# Altium footprint library FT260.PCBLIB: 3 footprints
Each footprint in its own frame and in the unit in brackets; x right, y up, seen from the top. Pads: shape width x height; smd on the part's side, far side on the other; paste and mask are expansions set on the pad; w line width, h text height; cw(c..) or ccw(c..) is an arc to the next point about the centre after c.
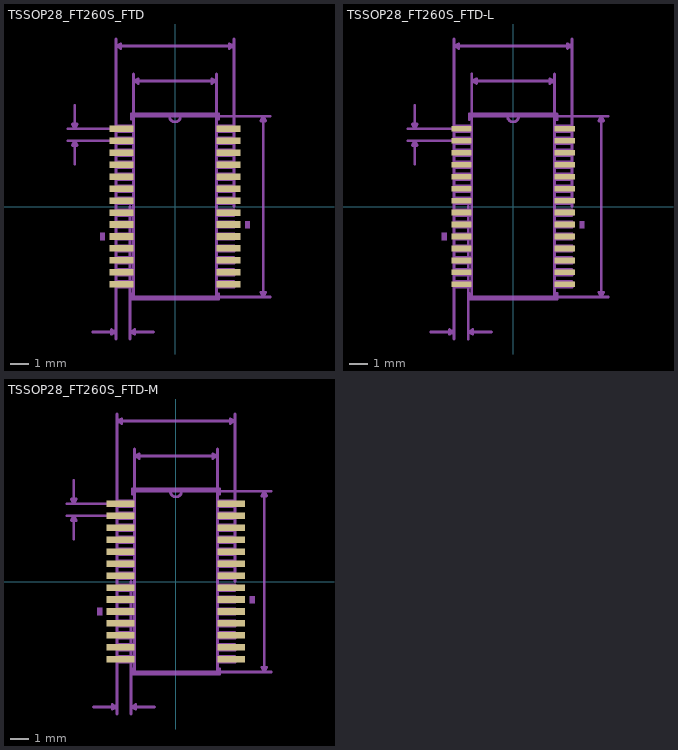
[diagram p0: the footprints below, top view; thin cyan lines are the x and y axes]

## TSSOP28_FT260S_FTD [mil]
pads (28):
  rect 51.5x14 smd: 1(-114.25,166.33) 2(-114.25,140.74) 3(-114.25,115.15) 4(-114.25,89.57) 5(-114.25,63.98) 6(-114.25,38.39) 7(-114.25,12.8) 8(-114.25,-12.8) 9(-114.25,-38.39) 10(-114.25,-63.98) 11(-114.25,-89.57) 12(-114.25,-115.15) 13(-114.25,-140.74) 14(-114.25,-166.33) 15(114.25,-166.33) 16(114.25,-140.74) 17(114.25,-115.15) 18(114.25,-89.57) 19(114.25,-63.98) 20(114.25,-38.39) 21(114.25,-12.8) 22(114.25,12.8) 23(114.25,38.39) 24(114.25,63.98) 25(114.25,89.57) 26(114.25,115.15) 27(114.25,140.74) 28(114.25,166.33)
tDocu:
  lines w6: -12,193 ccw(c0,193) 12,193 ; -126,-172.33 -126,-160.33 -88.5,-160.33 -88.5,-172.33 -126,-172.33 ; -126,-146.74 -126,-134.74 -88.5,-134.74 -88.5,-146.74 -126,-146.74 ; -126,-121.15 -126,-109.15 -88.5,-109.15 -88.5,-121.15 -126,-121.15 ; -126,-95.57 -126,-83.57 -88.5,-83.57 -88.5,-95.57 -126,-95.57 ; -126,-69.98 -126,-57.98 -88.5,-57.98 -88.5,-69.98 -126,-69.98 ; -126,-44.39 -126,-32.39 -88.5,-32.39 -88.5,-44.39 -126,-44.39 ; -126,-18.8 -126,-6.8 -88.5,-6.8 -88.5,-18.8 -126,-18.8 ; -126,6.8 -126,18.8 -88.5,18.8 -88.5,6.8 -126,6.8 ; -126,32.39 -126,44.39 -88.5,44.39 -88.5,32.39 -126,32.39 ; -126,57.98 -126,69.98 -88.5,69.98 -88.5,57.98 -126,57.98 ; -126,83.57 -126,95.57 -88.5,95.57 -88.5,83.57 -126,83.57 ; -126,109.15 -126,121.15 -88.5,121.15 -88.5,109.15 -126,109.15 ; -126,134.74 -126,146.74 -88.5,146.74 -88.5,134.74 -126,134.74 ; -126,160.33 -126,172.33 -88.5,172.33 -88.5,160.33 -126,160.33 ; -88.5,-193 88.5,-193 88.5,193 -88.5,193 -88.5,-193 ; 88.5,-172.33 88.5,-160.33 126,-160.33 126,-172.33 88.5,-172.33 ; 88.5,-146.74 88.5,-134.74 126,-134.74 126,-146.74 88.5,-146.74 ; 88.5,-121.15 88.5,-109.15 126,-109.15 126,-121.15 88.5,-121.15 ; 88.5,-95.57 88.5,-83.57 126,-83.57 126,-95.57 88.5,-95.57 ; 88.5,-69.98 88.5,-57.98 126,-57.98 126,-69.98 88.5,-69.98 ; 88.5,-44.39 88.5,-32.39 126,-32.39 126,-44.39 88.5,-44.39 ; 88.5,-18.8 88.5,-6.8 126,-6.8 126,-18.8 88.5,-18.8 ; 88.5,6.8 88.5,18.8 126,18.8 126,6.8 88.5,6.8 ; 88.5,32.39 88.5,44.39 126,44.39 126,32.39 88.5,32.39 ; 88.5,57.98 88.5,69.98 126,69.98 126,57.98 88.5,57.98 ; 88.5,83.57 88.5,95.57 126,95.57 126,83.57 88.5,83.57 ; 88.5,109.15 88.5,121.15 126,121.15 126,109.15 88.5,109.15 ; 88.5,134.74 88.5,146.74 126,146.74 126,134.74 88.5,134.74 ; 88.5,160.33 88.5,172.33 126,172.33 126,160.33 88.5,160.33
  text "*" at -96.19,140 h77.5
tPlace:
  region: -160,-56.48 -160,-71.48 -150,-71.48 -150,-56.48
  region: 160,-30.89 160,-45.89 150,-45.89 150,-30.89
  lines w6: -93.5,-186.43 -93.5,-198 93.5,-198 93.5,-186.43 ; -93.5,186.43 -93.5,198 93.5,198 93.5,186.43
  text "*" at -146.94,175.33 h77.5
Measures:
  lines w6: -229.25,140.74 -114.25,140.74 ; -229.25,166.33 -114.25,166.33 ; -214.25,90.74 -214.25,140.74 ; -214.25,216.33 -214.25,166.33 ; -176,-268 -126,-268 ; -126,-283 -126,0 -126,358 ; -96,-283 -96,0 ; -88.5,0 -88.5,283 ; -46,-268 -96,-268 ; 0,-193 203.5,-193 ; 0,193 203.5,193 ; 88.5,0 88.5,283 ; 126,0 126,358 ; -214.25,140.74 -219.25,130.74 -209.25,130.74 -214.25,140.74 ; -214.25,166.33 -219.25,176.33 -209.25,176.33 -214.25,166.33 ; -126,-268 -136,-263 -136,-273 -126,-268 ; -126,343 126,343 ; -126,343 -116,348 -116,338 -126,343 ; -96,-268 -86,-263 -86,-273 -96,-268 ; -88.5,268 88.5,268 ; -88.5,268 -78.5,273 -78.5,263 -88.5,268 ; 88.5,268 78.5,273 78.5,263 88.5,268 ; 126,343 116,348 116,338 126,343 ; 188.5,-193 188.5,193 ; 188.5,-193 183.5,-183 193.5,-183 188.5,-193 ; 188.5,193 183.5,183 193.5,183 188.5,193
  text "Default Padstyle: RX51p5Y14D0T" at -643.94,-393 h77.5
  text "Pin One Padstyle: RX51p5Y14D0T" at -658.61,-453 h77.5
  text "Alt 1 Padstyle: OX60Y90D30P" at -583.21,-633 h77.5
  text "Alt 2 Padstyle: OX90Y60D30P" at -583.21,-693 h77.5
  text "0.177in/4.496mm" at -159.15,288 h38.75
  text "0.252in/6.401mm" at -159.15,363 h38.75
  text "0.386in/9.804mm" at 208.5,-12.5 h38.75
  text "0.026in/0.65mm" at -529.86,141.04 h38.75
  text "0.03in/0.762mm" at -258.81,-313 h38.75

## TSSOP28_FT260S_FTD-L [mil]
pads (28):
  rect 43.5x12 smd: 1(-110.25,166.33) 2(-110.25,140.74) 3(-110.25,115.15) 4(-110.25,89.57) 5(-110.25,63.98) 6(-110.25,38.39) 7(-110.25,12.8) 8(-110.25,-12.8) 9(-110.25,-38.39) 10(-110.25,-63.98) 11(-110.25,-89.57) 12(-110.25,-115.15) 13(-110.25,-140.74) 14(-110.25,-166.33) 15(110.25,-166.33) 16(110.25,-140.74) 17(110.25,-115.15) 18(110.25,-89.57) 19(110.25,-63.98) 20(110.25,-38.39) 21(110.25,-12.8) 22(110.25,12.8) 23(110.25,38.39) 24(110.25,63.98) 25(110.25,89.57) 26(110.25,115.15) 27(110.25,140.74) 28(110.25,166.33)
tDocu:
  lines w6: -12,193 ccw(c0,193) 12,193 ; -126,-172.33 -126,-160.33 -88.5,-160.33 -88.5,-172.33 -126,-172.33 ; -126,-146.74 -126,-134.74 -88.5,-134.74 -88.5,-146.74 -126,-146.74 ; -126,-121.15 -126,-109.15 -88.5,-109.15 -88.5,-121.15 -126,-121.15 ; -126,-95.57 -126,-83.57 -88.5,-83.57 -88.5,-95.57 -126,-95.57 ; -126,-69.98 -126,-57.98 -88.5,-57.98 -88.5,-69.98 -126,-69.98 ; -126,-44.39 -126,-32.39 -88.5,-32.39 -88.5,-44.39 -126,-44.39 ; -126,-18.8 -126,-6.8 -88.5,-6.8 -88.5,-18.8 -126,-18.8 ; -126,6.8 -126,18.8 -88.5,18.8 -88.5,6.8 -126,6.8 ; -126,32.39 -126,44.39 -88.5,44.39 -88.5,32.39 -126,32.39 ; -126,57.98 -126,69.98 -88.5,69.98 -88.5,57.98 -126,57.98 ; -126,83.57 -126,95.57 -88.5,95.57 -88.5,83.57 -126,83.57 ; -126,109.15 -126,121.15 -88.5,121.15 -88.5,109.15 -126,109.15 ; -126,134.74 -126,146.74 -88.5,146.74 -88.5,134.74 -126,134.74 ; -126,160.33 -126,172.33 -88.5,172.33 -88.5,160.33 -126,160.33 ; -88.5,-193 88.5,-193 88.5,193 -88.5,193 -88.5,-193 ; 88.5,-172.33 88.5,-160.33 126,-160.33 126,-172.33 88.5,-172.33 ; 88.5,-146.74 88.5,-134.74 126,-134.74 126,-146.74 88.5,-146.74 ; 88.5,-121.15 88.5,-109.15 126,-109.15 126,-121.15 88.5,-121.15 ; 88.5,-95.57 88.5,-83.57 126,-83.57 126,-95.57 88.5,-95.57 ; 88.5,-69.98 88.5,-57.98 126,-57.98 126,-69.98 88.5,-69.98 ; 88.5,-44.39 88.5,-32.39 126,-32.39 126,-44.39 88.5,-44.39 ; 88.5,-18.8 88.5,-6.8 126,-6.8 126,-18.8 88.5,-18.8 ; 88.5,6.8 88.5,18.8 126,18.8 126,6.8 88.5,6.8 ; 88.5,32.39 88.5,44.39 126,44.39 126,32.39 88.5,32.39 ; 88.5,57.98 88.5,69.98 126,69.98 126,57.98 88.5,57.98 ; 88.5,83.57 88.5,95.57 126,95.57 126,83.57 88.5,83.57 ; 88.5,109.15 88.5,121.15 126,121.15 126,109.15 88.5,109.15 ; 88.5,134.74 88.5,146.74 126,146.74 126,134.74 88.5,134.74 ; 88.5,160.33 88.5,172.33 126,172.33 126,160.33 88.5,160.33
  text "*" at -96.19,140 h77.5
tPlace:
  region: -152,-56.48 -152,-71.48 -142,-71.48 -142,-56.48
  region: 152,-30.89 152,-45.89 142,-45.89 142,-30.89
  lines w6: -93.5,-185.43 -93.5,-198 93.5,-198 93.5,-185.43 ; -93.5,185.43 -93.5,198 93.5,198 93.5,185.43
  text "*" at -142.94,173.33 h77.5
Measures:
  lines w6: -225.25,140.74 -110.25,140.74 ; -225.25,166.33 -110.25,166.33 ; -210.25,90.74 -210.25,140.74 ; -210.25,216.33 -210.25,166.33 ; -176,-268 -126,-268 ; -126,-283 -126,0 -126,358 ; -96,-283 -96,0 ; -88.5,0 -88.5,283 ; -46,-268 -96,-268 ; 0,-193 203.5,-193 ; 0,193 203.5,193 ; 88.5,0 88.5,283 ; 126,0 126,358 ; -210.25,140.74 -215.25,130.74 -205.25,130.74 -210.25,140.74 ; -210.25,166.33 -215.25,176.33 -205.25,176.33 -210.25,166.33 ; -126,-268 -136,-263 -136,-273 -126,-268 ; -126,343 126,343 ; -126,343 -116,348 -116,338 -126,343 ; -96,-268 -86,-263 -86,-273 -96,-268 ; -88.5,268 88.5,268 ; -88.5,268 -78.5,273 -78.5,263 -88.5,268 ; 88.5,268 78.5,273 78.5,263 88.5,268 ; 126,343 116,348 116,338 126,343 ; 188.5,-193 188.5,193 ; 188.5,-193 183.5,-183 193.5,-183 188.5,-193 ; 188.5,193 183.5,183 193.5,183 188.5,193
  text "Default Padstyle: RX43p5Y12D0T" at -643.94,-393 h77.5
  text "Pin One Padstyle: RX43p5Y12D0T" at -658.61,-453 h77.5
  text "Alt 1 Padstyle: OX60Y90D30P" at -583.21,-633 h77.5
  text "Alt 2 Padstyle: OX90Y60D30P" at -583.21,-693 h77.5
  text "0.177in/4.496mm" at -159.15,288 h38.75
  text "0.252in/6.401mm" at -159.15,363 h38.75
  text "0.386in/9.804mm" at 208.5,-12.5 h38.75
  text "0.026in/0.65mm" at -525.86,141.04 h38.75
  text "0.03in/0.762mm" at -258.81,-313 h38.75

## TSSOP28_FT260S_FTD-M [mil]
pads (28):
  rect 59.5x14 smd: 1(-118.25,166.33) 2(-118.25,140.74) 3(-118.25,115.15) 4(-118.25,89.57) 5(-118.25,63.98) 6(-118.25,38.39) 7(-118.25,12.8) 8(-118.25,-12.8) 9(-118.25,-38.39) 10(-118.25,-63.98) 11(-118.25,-89.57) 12(-118.25,-115.15) 13(-118.25,-140.74) 14(-118.25,-166.33) 15(118.25,-166.33) 16(118.25,-140.74) 17(118.25,-115.15) 18(118.25,-89.57) 19(118.25,-63.98) 20(118.25,-38.39) 21(118.25,-12.8) 22(118.25,12.8) 23(118.25,38.39) 24(118.25,63.98) 25(118.25,89.57) 26(118.25,115.15) 27(118.25,140.74) 28(118.25,166.33)
tDocu:
  lines w6: -12,193 ccw(c0,193) 12,193 ; -126,-172.33 -126,-160.33 -88.5,-160.33 -88.5,-172.33 -126,-172.33 ; -126,-146.74 -126,-134.74 -88.5,-134.74 -88.5,-146.74 -126,-146.74 ; -126,-121.15 -126,-109.15 -88.5,-109.15 -88.5,-121.15 -126,-121.15 ; -126,-95.57 -126,-83.57 -88.5,-83.57 -88.5,-95.57 -126,-95.57 ; -126,-69.98 -126,-57.98 -88.5,-57.98 -88.5,-69.98 -126,-69.98 ; -126,-44.39 -126,-32.39 -88.5,-32.39 -88.5,-44.39 -126,-44.39 ; -126,-18.8 -126,-6.8 -88.5,-6.8 -88.5,-18.8 -126,-18.8 ; -126,6.8 -126,18.8 -88.5,18.8 -88.5,6.8 -126,6.8 ; -126,32.39 -126,44.39 -88.5,44.39 -88.5,32.39 -126,32.39 ; -126,57.98 -126,69.98 -88.5,69.98 -88.5,57.98 -126,57.98 ; -126,83.57 -126,95.57 -88.5,95.57 -88.5,83.57 -126,83.57 ; -126,109.15 -126,121.15 -88.5,121.15 -88.5,109.15 -126,109.15 ; -126,134.74 -126,146.74 -88.5,146.74 -88.5,134.74 -126,134.74 ; -126,160.33 -126,172.33 -88.5,172.33 -88.5,160.33 -126,160.33 ; -88.5,-193 88.5,-193 88.5,193 -88.5,193 -88.5,-193 ; 88.5,-172.33 88.5,-160.33 126,-160.33 126,-172.33 88.5,-172.33 ; 88.5,-146.74 88.5,-134.74 126,-134.74 126,-146.74 88.5,-146.74 ; 88.5,-121.15 88.5,-109.15 126,-109.15 126,-121.15 88.5,-121.15 ; 88.5,-95.57 88.5,-83.57 126,-83.57 126,-95.57 88.5,-95.57 ; 88.5,-69.98 88.5,-57.98 126,-57.98 126,-69.98 88.5,-69.98 ; 88.5,-44.39 88.5,-32.39 126,-32.39 126,-44.39 88.5,-44.39 ; 88.5,-18.8 88.5,-6.8 126,-6.8 126,-18.8 88.5,-18.8 ; 88.5,6.8 88.5,18.8 126,18.8 126,6.8 88.5,6.8 ; 88.5,32.39 88.5,44.39 126,44.39 126,32.39 88.5,32.39 ; 88.5,57.98 88.5,69.98 126,69.98 126,57.98 88.5,57.98 ; 88.5,83.57 88.5,95.57 126,95.57 126,83.57 88.5,83.57 ; 88.5,109.15 88.5,121.15 126,121.15 126,109.15 88.5,109.15 ; 88.5,134.74 88.5,146.74 126,146.74 126,134.74 88.5,134.74 ; 88.5,160.33 88.5,172.33 126,172.33 126,160.33 88.5,160.33
  text "*" at -96.19,140 h77.5
tPlace:
  region: -168,-56.48 -168,-71.48 -158,-71.48 -158,-56.48
  region: 168,-30.89 168,-45.89 158,-45.89 158,-30.89
  lines w6: -93.5,-186.43 -93.5,-198 93.5,-198 93.5,-186.43 ; -93.5,186.43 -93.5,198 93.5,198 93.5,186.43
  text "*" at -150.94,175.33 h77.5
Measures:
  lines w6: -233.25,140.74 -118.25,140.74 ; -233.25,166.33 -118.25,166.33 ; -218.25,90.74 -218.25,140.74 ; -218.25,216.33 -218.25,166.33 ; -176,-268 -126,-268 ; -126,-283 -126,0 -126,358 ; -96,-283 -96,0 ; -88.5,0 -88.5,283 ; -46,-268 -96,-268 ; 0,-193 203.5,-193 ; 0,193 203.5,193 ; 88.5,0 88.5,283 ; 126,0 126,358 ; -218.25,140.74 -223.25,130.74 -213.25,130.74 -218.25,140.74 ; -218.25,166.33 -223.25,176.33 -213.25,176.33 -218.25,166.33 ; -126,-268 -136,-263 -136,-273 -126,-268 ; -126,343 126,343 ; -126,343 -116,348 -116,338 -126,343 ; -96,-268 -86,-263 -86,-273 -96,-268 ; -88.5,268 88.5,268 ; -88.5,268 -78.5,273 -78.5,263 -88.5,268 ; 88.5,268 78.5,273 78.5,263 88.5,268 ; 126,343 116,348 116,338 126,343 ; 188.5,-193 188.5,193 ; 188.5,-193 183.5,-183 193.5,-183 188.5,-193 ; 188.5,193 183.5,183 193.5,183 188.5,193
  text "Default Padstyle: RX59p5Y14D0T" at -643.94,-393 h77.5
  text "Pin One Padstyle: RX59p5Y14D0T" at -658.61,-453 h77.5
  text "Alt 1 Padstyle: OX60Y90D30P" at -583.21,-633 h77.5
  text "Alt 2 Padstyle: OX90Y60D30P" at -583.21,-693 h77.5
  text "0.177in/4.496mm" at -159.15,288 h38.75
  text "0.252in/6.401mm" at -159.15,363 h38.75
  text "0.386in/9.804mm" at 208.5,-12.5 h38.75
  text "0.026in/0.65mm" at -533.86,141.04 h38.75
  text "0.03in/0.762mm" at -258.81,-313 h38.75